# EAGLE library part EXB38V (library Panasonic-EXB-ERJ)
Chip Resistor Array
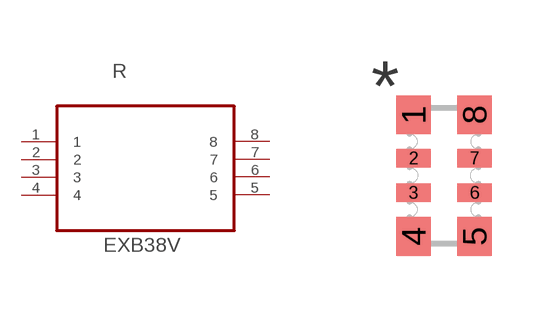
[diagram p2: symbol with the pads of RESCAXE80P320X160X60-8N; footprint RESCAXE80P320X160X60-8N]

Designator prefix R

## EXB38V100JV (MPN: EXB38V100JV; OC_FARNELL: 2060084; OC_NEWARK: 65T9084; PACKAGE: 0603; POWERRATING: 0.063 W/element; SUPPLIER: PANASONIC; TOLERANCE: ±5 %; VALUE: 10R), EXB38V101JV (MPN: EXB38V101JV; OC_FARNELL: 2060092; OC_NEWARK: 65T9085; PACKAGE: 0603; POWERRATING: 0.063 W/element; SUPPLIER: PANASONIC; TOLERANCE: ±5 %; VALUE: 100R), EXB38V102JV (MPN: EXB38V102JV; OC_FARNELL: 2060100; OC_NEWARK: 65T9086; PACKAGE: 0603; POWERRATING: 0.063 W/element; SUPPLIER: PANASONIC; TOLERANCE: ±5 %; VALUE: 1K), EXB38V103JV (MPN: EXB38V103JV; OC_FARNELL: 2060107; OC_NEWARK: 65T9087; PACKAGE: 0603; POWERRATING: 0.063 W/element; SUPPLIER: PANASONIC; TOLERANCE: ±5 %; VALUE: 10K), EXB38V104JV (MPN: EXB38V104JV; OC_FARNELL: 2060112; OC_NEWARK: 65T9088; PACKAGE: 0603; POWERRATING: 0.063 W/element; SUPPLIER: PANASONIC; TOLERANCE: ±5 %; VALUE: 100K), EXB38V151JV (MPN: EXB38V151JV; OC_FARNELL: 2060093; OC_NEWARK: 65T9089; PACKAGE: 0603; POWERRATING: 0.063 W/element; SUPPLIER: PANASONIC; TOLERANCE: ±5 %; VALUE: 150R), EXB38V152JV (MPN: EXB38V152JV; OC_FARNELL: 2060101; OC_NEWARK: 65T9090; PACKAGE: 0603; POWERRATING: 0.063 W/element; SUPPLIER: PANASONIC; TOLERANCE: ±5 %; VALUE: 1K5), EXB38V153JV (MPN: EXB38V153JV; OC_FARNELL: 2060108; OC_NEWARK: 65T9091; PACKAGE: 0603; POWERRATING: 0.063 W/element; SUPPLIER: PANASONIC; TOLERANCE: ±5 %; VALUE: 15K), EXB38V220JV (MPN: EXB38V220JV; OC_FARNELL: 2060086; OC_NEWARK: 65T9092; PACKAGE: 0603; POWERRATING: 0.063 W/element; SUPPLIER: PANASONIC; TOLERANCE: ±5 %; VALUE: 22R), EXB38V221JV (MPN: EXB38V221JV; OC_FARNELL: 2060094; OC_NEWARK: 65T9093; PACKAGE: 0603; POWERRATING: 0.063 W/element; SUPPLIER: PANASONIC; TOLERANCE: ±5 %; VALUE: 220R), EXB38V222JV (MPN: EXB38V222JV; OC_FARNELL: 2060102; OC_NEWARK: 65T9094; PACKAGE: 0603; POWERRATING: 0.063 W/element; SUPPLIER: PANASONIC; TOLERANCE: ±5 %; VALUE: 2K2), EXB38V223JV (MPN: EXB38V223JV; OC_FARNELL: 2060109; OC_NEWARK: 65T9095; PACKAGE: 0603; POWERRATING: 0.063 W/element; SUPPLIER: PANASONIC; TOLERANCE: ±5 %; VALUE: 22K), EXB38V270JV (MPN: EXB38V270JV; OC_FARNELL: 2060087; OC_NEWARK: 65T9096; PACKAGE: 0603; POWERRATING: 0.063 W/element; SUPPLIER: PANASONIC; TOLERANCE: ±5 %; VALUE: 27R), EXB38V330JV (MPN: EXB38V330JV; OC_FARNELL: 2060088; OC_NEWARK: 65T9097; PACKAGE: 0603; POWERRATING: 0.063 W/element; SUPPLIER: PANASONIC; TOLERANCE: ±5 %; VALUE: 33R), EXB38V331JV (MPN: EXB38V331JV; OC_FARNELL: 2060095; OC_NEWARK: 65T9098; PACKAGE: 0603; POWERRATING: 0.063 W/element; SUPPLIER: PANASONIC; TOLERANCE: ±5 %; VALUE: 330R), EXB38V332JV (MPN: EXB38V332JV; OC_FARNELL: 2060113; OC_NEWARK: 65T9099; PACKAGE: 0603; POWERRATING: 0.063 W/element; SUPPLIER: PANASONIC; TOLERANCE: ±5 %; VALUE: 303K), EXB38V392JV (MPN: EXB38V392JV; OC_FARNELL: 2060104; OC_NEWARK: 65T9100; PACKAGE: 0603; POWERRATING: 0.063 W/element; SUPPLIER: PANASONIC; TOLERANCE: ±5 %; VALUE: 3K9), EXB38V393JV (MPN: EXB38V393JV; OC_FARNELL: 2060110; OC_NEWARK: 65T9101; PACKAGE: 0603; POWERRATING: 0.063 W/element; SUPPLIER: PANASONIC; TOLERANCE: ±5 %; VALUE: 39K), EXB38V470JV (MPN: EXB38V470JV; OC_FARNELL: 2060089; OC_NEWARK: 65T9102; PACKAGE: 0603; POWERRATING: 0.063 W/element; SUPPLIER: PANASONIC; TOLERANCE: ±5 %; VALUE: 47R), EXB38V471JV (MPN: EXB38V471JV; OC_FARNELL: 2060096; OC_NEWARK: 65T9103; PACKAGE: 0603; POWERRATING: 0.063 W/element; SUPPLIER: PANASONIC; TOLERANCE: ±5 %; VALUE: 470R), EXB38V472JV (MPN: EXB38V472JV; OC_FARNELL: 2060105; OC_NEWARK: 65T9104; PACKAGE: 0603; POWERRATING: 0.063 W/element; SUPPLIER: PANASONIC; TOLERANCE: ±5 %; VALUE: 4K7), EXB38V473JV (MPN: EXB38V473JV; OC_FARNELL: 2060111; OC_NEWARK: 65T9105; PACKAGE: 0603; POWERRATING: 0.063 W/element; SUPPLIER: PANASONIC; TOLERANCE: ±5 %; VALUE: 47K), EXB38V560JV (MPN: EXB38V560JV; OC_FARNELL: 2060090; OC_NEWARK: 65T9106; PACKAGE: 0603; POWERRATING: 0.063 W/element; SUPPLIER: PANASONIC; TOLERANCE: ±5 %; VALUE: 56R), EXB38V561JV (MPN: EXB38V561JV; OC_FARNELL: 2060098; OC_NEWARK: 65T9107; PACKAGE: 0603; POWERRATING: 0.063 W/element; SUPPLIER: PANASONIC; TOLERANCE: ±5 %; VALUE: 560R), EXB38V562JV (MPN: EXB38V562JV; OC_FARNELL: 2060106; OC_NEWARK: 65T9108; PACKAGE: 0603; POWERRATING: 0.063 W/element; SUPPLIER: PANASONIC; TOLERANCE: ±5 %; VALUE: 5K6), EXB38V680JV (MPN: EXB38V680JV; OC_FARNELL: 2060091; OC_NEWARK: 65T9109; PACKAGE: 0603; POWERRATING: 0.063 W/element; SUPPLIER: PANASONIC; TOLERANCE: ±5 %; VALUE: 68R), EXB38V681JV (MPN: EXB38V681JV; OC_FARNELL: 2060099; OC_NEWARK: 65T9110; PACKAGE: 0603; POWERRATING: 0.063 W/element; SUPPLIER: PANASONIC; TOLERANCE: ±5 %; VALUE: 680R), EXB38VR000V (MPN: EXB38VR000V; OC_FARNELL: 2060083; OC_NEWARK: 65T9083; PACKAGE: 0603; POWERRATING: 0.063 W/element; SUPPLIER: PANASONIC; TOLERANCE: -; VALUE: 0R)  [RESCAXE80P320X160X60-8N]
1  1  pas
2  2  pas
3  3  pas
4  4  pas
5  5  pas
6  6  pas
7  7  pas
8  8  pas

## Footprint RESCAXE80P320X160X60-8N (pad centres in mm)
smd 0.864 x 0.965: 1 -0.762,1.524; 4 -0.762,-1.524; 5 0.762,-1.524; 8 0.762,1.524
smd 0.864 x 0.457: 2 -0.762,0.432; 3 -0.762,-0.432; 6 0.762,-0.432; 7 0.762,0.432